# EAGLE library part 750341181 (library WE-PLN)
WE-PLN Planar Transformers Characteristics Switching frequency: 200kHz to 700kHz optimized Isolation voltage: 2250VDC Operating temp: -40°C to 125°C Flat wire windings with low DCR Applications Telecom PSU Industrial Power Supplies DC/DC Converters <https://www.we-online.com/components/media/o780001v209%20FAMILY-MID-PLN.jpg> Details see: www.we-online.com/en/components/products/WE-PLN <www.we-online.com/catalog/WE-PLN/?utm_source=eagle_model&utm_medium=description_link&utm_campaign=eisos_eagle> Created by Ella 2024-03-14 2024(C) Wurth Elektronik
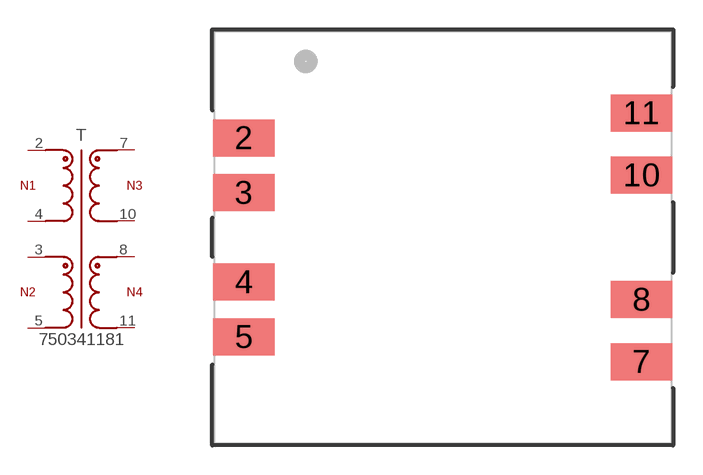
[diagram p22: symbol with the pads of WE-PLN_ER19_L23.37W21.08H10.5; footprint WE-PLN_ER19_L23.37W21.08H10.5]

Designator prefix T

## 750341181 (DATASHEET-URL: https://www.we-online.com/redexpert/spec/750341181?ae; HEIGHT: 10.5mm; L: 86uH; LENGTH: 21.08mm; MOUNT: SMT; N: 3:3:1:1; PART-NUMBER: 750341181; SIZE: ER19/4.8/15; VALUE: 750341181; VT: 2250V(DC); VUS: 180Vus; WIDTH: 23.37mm)  [WE-PLN_ER19_L23.37W21.08H10.5]
2  2  pas
3  3  pas
4  4  pas
5  5  pas
7  7  pas
8  8  pas
10  10  pas
11  11  pas

## Footprint WE-PLN_ER19_L23.37W21.08H10.5 (pad centres in mm)
WE-PLN Planar Transformers Size: ER19/4.8/15, SMT, 8Pins LXWXH=23.37X21.08X10.5mm
smd 3.13 x 1.89: 2 -10.165,5.085; 3 -10.165,2.285; 4 -10.165,-2.285; 5 -10.165,-5.085; 7 10.165,-6.36; 8 10.165,-3.18; 10 10.165,3.18; 11 10.165,6.36